# Altium footprint library TestPoint.PcbLib: 57 footprints (part 2 of 4)
Each footprint in its own frame and in the unit in brackets; x right, y up, seen from the top. Pads: shape width x height; smd on the part's side, far side on the other; paste and mask are expansions set on the pad; w line width, h text height; cw(c..) or ccw(c..) is an arc to the next point about the centre after c.
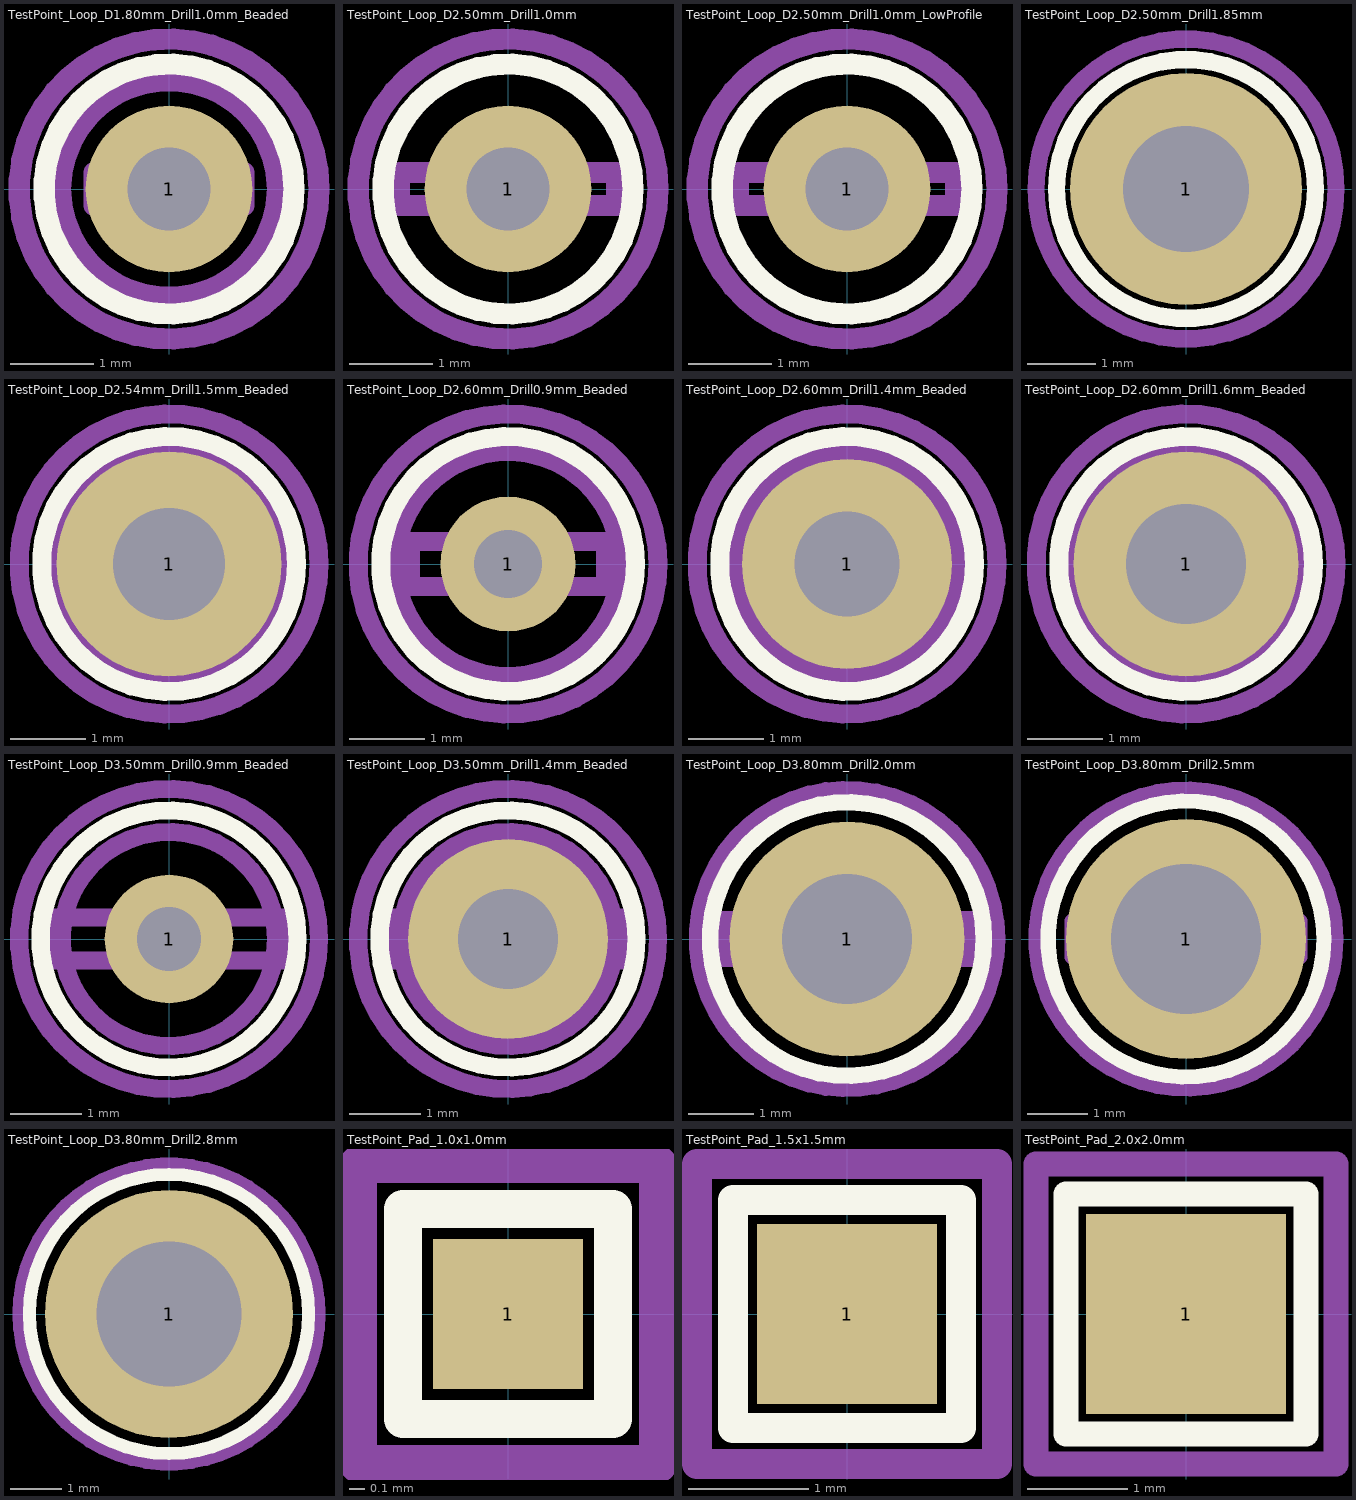
[diagram p1: the footprints below, top view; thin cyan lines are the x and y axes]

## TestPoint_Loop_D1.80mm_Drill1.0mm_Beaded [mm]
pads (1):
  round 2 hole 1: 1(0,0)
F.SilkS:
  circle w0.254: c0,0 r1.5
Top Assembly:
  circle w0.254: c0,0 r1.3
  lines w0.254: -0.9,-0.2 0.9,-0.2 0.9,0.2 -0.9,0.2 -0.9,-0.2
  text "'.Designator'" at -3.347,-3.34 h1
Top Courtyard:
  circle w0.254: c0,0 r1.8
Top Designator:
  text ".Designator" at -7.068,-1.456 h1.52

## TestPoint_Loop_D2.50mm_Drill1.0mm [mm]
pads (1):
  round 2 hole 1: 1(0,0)
F.SilkS:
  circle w0.254: c0,0 r1.5
Top Assembly:
  lines w0.254: -1.3,-0.2 1.3,-0.2 1.3,0.2 -1.3,0.2 -1.3,-0.2
  text "'.Designator'" at -3.347,-3.34 h1
Top Courtyard:
  circle w0.254: c0,0 r1.8
Top Designator:
  text ".Designator" at -7.068,-1.456 h1.52

## TestPoint_Loop_D2.50mm_Drill1.0mm_LowProfile [mm]
pads (1):
  round 2 hole 1: 1(0,0)
F.SilkS:
  circle w0.254: c0,0 r1.5
Top Assembly:
  lines w0.254: -1.3,-0.2 1.3,-0.2 1.3,0.2 -1.3,0.2 -1.3,-0.2
  text "'.Designator'" at -3.347,-3.34 h1
Top Courtyard:
  circle w0.254: c0,0 r1.8
Top Designator:
  text ".Designator" at -7.068,-1.456 h1.52

## TestPoint_Loop_D2.50mm_Drill1.85mm [mm]
pads (1):
  round 3.4 hole 1.85: 1(0,0)
F.SilkS:
  circle w0.254: c0,0 r1.9
Top Assembly:
  lines w0.254: -1.3,-0.2 1.3,-0.2 1.3,0.2 -1.3,0.2 -1.3,-0.2
  text "'.Designator'" at -3.347,-3.64 h1
Top Courtyard:
  circle w0.254: c0,0 r2.2
Top Designator:
  text ".Designator" at -7.068,-1.406 h1.52

## TestPoint_Loop_D2.54mm_Drill1.5mm_Beaded [mm]
pads (1):
  round 3 hole 1.5: 1(0,0)
F.SilkS:
  circle w0.254: c0,0 r1.7
Top Assembly:
  circle w0.254: c0,0 r1.5
  lines w0.254: -1.3,-0.3 1.3,-0.3 1.3,0.3 -1.3,0.3 -1.3,-0.3
  text "'.Designator'" at -3.347,-3.34 h1
Top Courtyard:
  circle w0.254: c0,0 r2
Top Designator:
  text ".Designator" at -7.068,-1.356 h1.52

## TestPoint_Loop_D2.60mm_Drill0.9mm_Beaded [mm]
pads (1):
  round 1.8 hole 0.9: 1(0,0)
F.SilkS:
  circle w0.254: c0,0 r1.7
Top Assembly:
  circle w0.254: c0,0 r1.5
  lines w0.254: -1.3,-0.3 1.3,-0.3 1.3,0.3 -1.3,0.3 -1.3,-0.3
  text "'.Designator'" at -3.347,-3.34 h1
Top Courtyard:
  circle w0.254: c0,0 r2
Top Designator:
  text ".Designator" at -7.068,-1.356 h1.52

## TestPoint_Loop_D2.60mm_Drill1.4mm_Beaded [mm]
pads (1):
  round 2.8 hole 1.4: 1(0,0)
F.SilkS:
  circle w0.254: c0,0 r1.7
Top Assembly:
  circle w0.254: c0,0 r1.5
  lines w0.254: -1.3,-0.3 1.3,-0.3 1.3,0.3 -1.3,0.3 -1.3,-0.3
  text "'.Designator'" at -3.347,-3.34 h1
Top Courtyard:
  circle w0.254: c0,0 r2
Top Designator:
  text ".Designator" at -7.068,-1.356 h1.52

## TestPoint_Loop_D2.60mm_Drill1.6mm_Beaded [mm]
pads (1):
  round 3 hole 1.6: 1(0,0)
F.SilkS:
  circle w0.254: c0,0 r1.7
Top Assembly:
  circle w0.254: c0,0 r1.5
  lines w0.254: -1.3,-0.3 1.3,-0.3 1.3,0.3 -1.3,0.3 -1.3,-0.3
  text "'.Designator'" at -3.347,-3.34 h1
Top Courtyard:
  circle w0.254: c0,0 r2
Top Designator:
  text ".Designator" at -7.068,-1.356 h1.52

## TestPoint_Loop_D3.50mm_Drill0.9mm_Beaded [mm]
pads (1):
  round 1.8 hole 0.9: 1(0,0)
F.SilkS:
  circle w0.254: c0,0 r1.8
Top Assembly:
  circle w0.254: c0,0 r1.5
  lines w0.254: -1.6,-0.3 1.6,-0.3 1.6,0.3 -1.6,0.3 -1.6,-0.3
  text "'.Designator'" at -3.347,-3.34 h1
Top Courtyard:
  circle w0.254: c0,0 r2.1
Top Designator:
  text ".Designator" at -7.068,-1.306 h1.52

## TestPoint_Loop_D3.50mm_Drill1.4mm_Beaded [mm]
pads (1):
  round 2.8 hole 1.4: 1(0,0)
F.SilkS:
  circle w0.254: c0,0 r1.8
Top Assembly:
  circle w0.254: c0,0 r1.5
  lines w0.254: -1.6,-0.3 1.6,-0.3 1.6,0.3 -1.6,0.3 -1.6,-0.3
  text "'.Designator'" at -3.347,-3.34 h1
Top Courtyard:
  circle w0.254: c0,0 r2.1
Top Designator:
  text ".Designator" at -7.068,-1.306 h1.52

## TestPoint_Loop_D3.80mm_Drill2.0mm [mm]
pads (1):
  round 3.6 hole 2: 1(0,0)
F.SilkS:
  circle w0.254: c0,0 r2.1
Top Assembly:
  lines w0.254: -1.9,-0.3 1.9,-0.3 1.9,0.3 -1.9,0.3 -1.9,-0.3
  text "'.Designator'" at -3.547,-3.64 h1
Top Courtyard:
  circle w0.254: c0,0 r2.3
Top Designator:
  text ".Designator" at -7.268,-1.356 h1.52

## TestPoint_Loop_D3.80mm_Drill2.5mm [mm]
pads (1):
  round 4 hole 2.5: 1(0,0)
F.SilkS:
  circle w0.254: c0,0 r2.3
Top Assembly:
  lines w0.254: -1.9,-0.3 1.9,-0.3 1.9,0.3 -1.9,0.3 -1.9,-0.3
  text "'.Designator'" at -3.547,-4.04 h1
Top Courtyard:
  circle w0.254: c0,0 r2.5
Top Designator:
  text ".Designator" at -7.268,-1.456 h1.52

## TestPoint_Loop_D3.80mm_Drill2.8mm [mm]
pads (1):
  round 4.8 hole 2.8: 1(0,0)
F.SilkS:
  circle w0.254: c0,0 r2.7
Top Assembly:
  lines w0.254: -1.9,-0.3 1.9,-0.3 1.9,0.3 -1.9,0.3 -1.9,-0.3
  text "'.Designator'" at -3.547,-4.34 h1
Top Courtyard:
  circle w0.254: c0,0 r2.9
Top Designator:
  text ".Designator" at -7.268,-1.406 h1.52

## TestPoint_Pad_1.0x1.0mm [mm]
pads (1):
  rect 1x1 smd: 1(0,0)
F.SilkS:
  lines w0.254: -0.7,-0.7 0.7,-0.7 0.7,0.7 -0.7,0.7 -0.7,-0.7
Top Assembly:
  text "'.Designator'" at -4.047,0.61 h1
Top Courtyard:
  lines w0.254: -1,-1 1,-1 1,1 -1,1 -1,-1
Top Designator:
  text ".Designator" at -7.768,-0.168 h1.52

## TestPoint_Pad_1.5x1.5mm [mm]
pads (1):
  rect 1.5x1.5 smd: 1(0,0)
F.SilkS:
  lines w0.254: -0.95,-0.95 0.95,-0.95 0.95,0.95 -0.95,0.95 -0.95,-0.95
Top Assembly:
  text "'.Designator'" at -4.047,0.81 h1
Top Courtyard:
  lines w0.254: -1.25,-1.25 1.25,-1.25 1.25,1.25 -1.25,1.25 -1.25,-1.25
Top Designator:
  text ".Designator" at -7.768,-0.193 h1.52

## TestPoint_Pad_2.0x2.0mm [mm]
pads (1):
  rect 2x2 smd: 1(0,0)
F.SilkS:
  lines w0.254: -1.2,-1.2 1.2,-1.2 1.2,1.2 -1.2,1.2 -1.2,-1.2
Top Assembly:
  text "'.Designator'" at -4.047,1.16 h1
Top Courtyard:
  lines w0.254: -1.5,-1.5 1.5,-1.5 1.5,1.5 -1.5,1.5 -1.5,-1.5
Top Designator:
  text ".Designator" at -7.768,-0.143 h1.52